# EAGLE library part QFP160PIN＿AITENDO (library QFP160PIN_AITENDO)
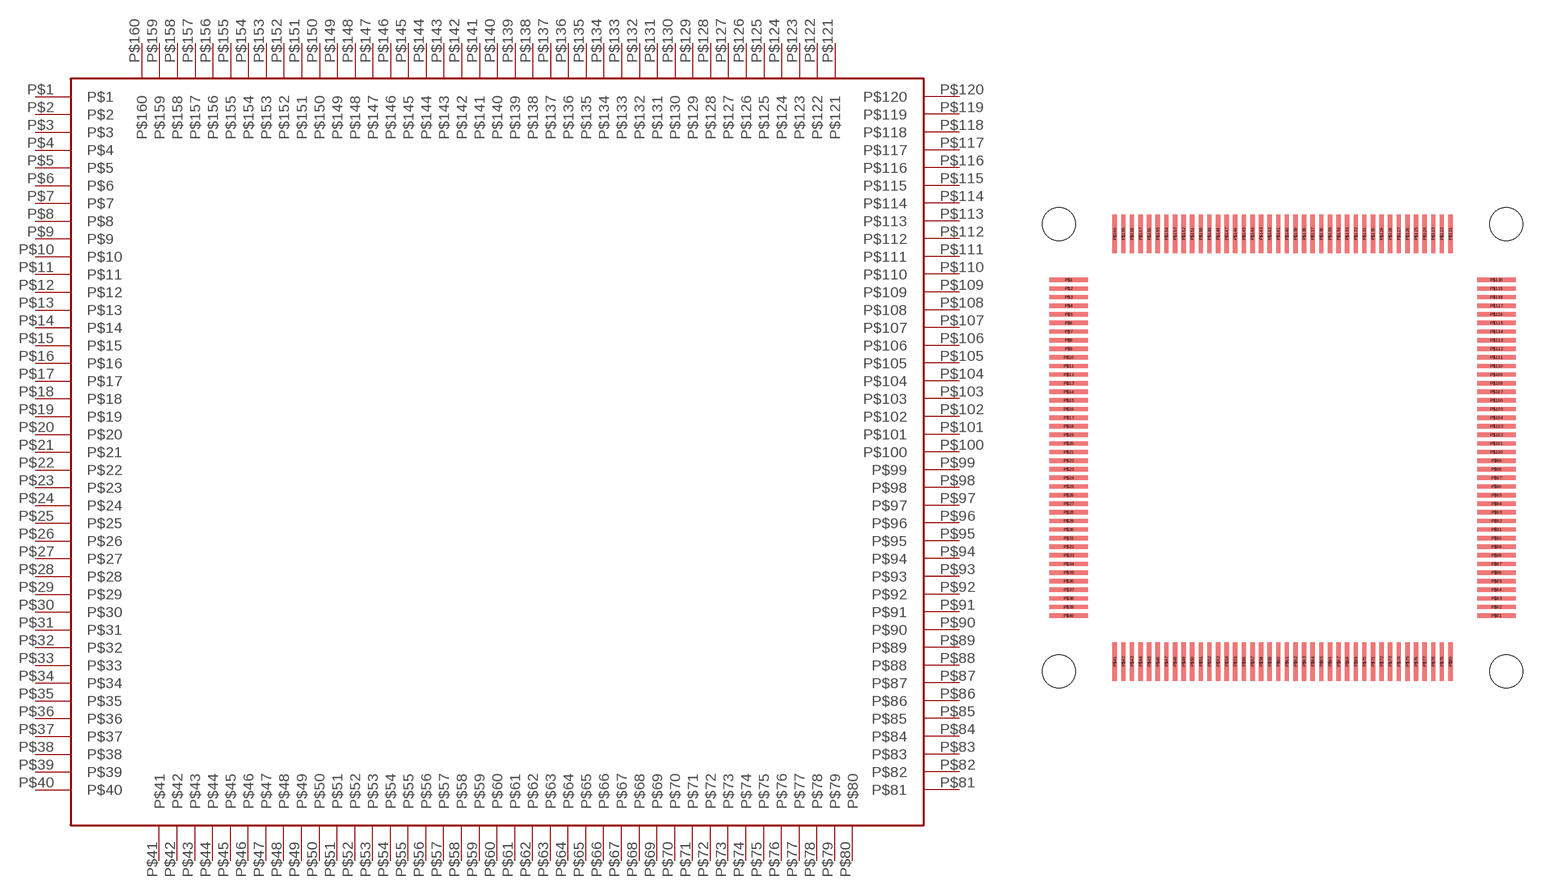
[diagram p0: symbol with the pads of QFP160PIN＿AITENDO; footprint QFP160PIN＿AITENDO]

Designator prefix -

## QFP160PIN＿AITENDO  [QFP160PIN＿AITENDO]
P$1  P$1
P$2  P$2
P$3  P$3
P$4  P$4
P$5  P$5
P$6  P$6
P$7  P$7
P$8  P$8
P$9  P$9
P$10  P$10
P$11  P$11
P$12  P$12
P$13  P$13
P$14  P$14
P$15  P$15
P$16  P$16
P$17  P$17
P$18  P$18
P$19  P$19
P$20  P$20
P$21  P$21
P$22  P$22
P$23  P$23
P$24  P$24
P$25  P$25
P$26  P$26
P$27  P$27
P$28  P$28
P$29  P$29
P$30  P$30
P$31  P$31
P$32  P$32
P$33  P$33
P$34  P$34
P$35  P$35
P$36  P$36
P$37  P$37
P$38  P$38
P$39  P$39
P$40  P$40
P$41  P$41
P$42  P$42
P$43  P$43
P$44  P$44
P$45  P$45
P$46  P$46
P$47  P$47
P$48  P$48
P$49  P$49
P$50  P$50
P$51  P$51
P$52  P$52
P$53  P$53
P$54  P$54
P$55  P$55
P$56  P$56
P$57  P$57
P$58  P$58
P$59  P$59
P$60  P$60
P$61  P$61
P$62  P$62
P$63  P$63
P$64  P$64
P$65  P$65
P$66  P$66
P$67  P$67
P$68  P$68
P$69  P$69
P$70  P$70
P$71  P$71
P$72  P$72
P$73  P$73
P$74  P$74
P$75  P$75
P$76  P$76
P$77  P$77
P$78  P$78
P$79  P$79
P$80  P$80
P$81  P$81
P$82  P$82
P$83  P$83
P$84  P$84
P$85  P$85
P$86  P$86
P$87  P$87
P$88  P$88
P$89  P$89
P$90  P$90
P$91  P$91
P$92  P$92
P$93  P$93
P$94  P$94
P$95  P$95
P$96  P$96
P$97  P$97
P$98  P$98
P$99  P$99
P$100  P$100
P$101  P$101
P$102  P$102
P$103  P$103
P$104  P$104
P$105  P$105
P$106  P$106
P$107  P$107
P$108  P$108
P$109  P$109
P$110  P$110
P$111  P$111
P$112  P$112
P$113  P$113
P$114  P$114
P$115  P$115
P$116  P$116
P$117  P$117
P$118  P$118
P$119  P$119
P$120  P$120
P$121  P$121
P$122  P$122
P$123  P$123
P$124  P$124
P$125  P$125
P$126  P$126
P$127  P$127
P$128  P$128
P$129  P$129
P$130  P$130
P$131  P$131
P$132  P$132
P$133  P$133
P$134  P$134
P$135  P$135
P$136  P$136
P$137  P$137
P$138  P$138
P$139  P$139
P$140  P$140
P$141  P$141
P$142  P$142
P$143  P$143
P$144  P$144
P$145  P$145
P$146  P$146
P$147  P$147
P$148  P$148
P$149  P$149
P$150  P$150
P$151  P$151
P$152  P$152
P$153  P$153
P$154  P$154
P$155  P$155
P$156  P$156
P$157  P$157
P$158  P$158
P$159  P$159
P$160  P$160

## Footprint QFP160PIN＿AITENDO (pad centres in mm)
smd 2.9 x 0.33: P$1 -16.15,12.675; P$2 -16.15,12.025; P$3 -16.15,11.375; P$4 -16.15,10.725; P$5 -16.15,10.075; P$6 -16.15,9.425; P$7 -16.15,8.775; P$8 -16.15,8.125; P$9 -16.15,7.475; P$10 -16.15,6.825; P$11 -16.15,6.175; P$12 -16.15,5.525; P$13 -16.15,4.875; P$14 -16.15,4.225; P$15 -16.15,3.575; P$16 -16.15,2.925; P$17 -16.15,2.275; P$18 -16.15,1.625; P$19 -16.15,0.975; P$20 -16.15,0.325; P$21 -16.15,-0.325; P$22 -16.15,-0.975; P$23 -16.15,-1.625; P$24 -16.15,-2.275; P$25 -16.15,-2.925; P$26 -16.15,-3.575; P$27 -16.15,-4.225; P$28 -16.15,-4.875; P$29 -16.15,-5.525; P$30 -16.15,-6.175; P$31 -16.15,-6.825; P$32 -16.15,-7.475; P$33 -16.15,-8.125; P$34 -16.15,-8.775; P$35 -16.15,-9.425; P$36 -16.15,-10.075; P$37 -16.15,-10.725; P$38 -16.15,-11.375; P$39 -16.15,-12.025; P$40 -16.15,-12.675; P$81 16.15,-12.675; P$82 16.15,-12.025; P$83 16.15,-11.375; P$84 16.15,-10.725; P$85 16.15,-10.075; P$86 16.15,-9.425; P$87 16.15,-8.775; P$88 16.15,-8.125; P$89 16.15,-7.475; P$90 16.15,-6.825; P$91 16.15,-6.175; P$92 16.15,-5.525; P$93 16.15,-4.875; P$94 16.15,-4.225; P$95 16.15,-3.575; P$96 16.15,-2.925; P$97 16.15,-2.275; P$98 16.15,-1.625; P$99 16.15,-0.975; P$100 16.15,-0.325; P$101 16.15,0.325; P$102 16.15,0.975; P$103 16.15,1.625; P$104 16.15,2.275; P$105 16.15,2.925; P$106 16.15,3.575; P$107 16.15,4.225; P$108 16.15,4.875; P$109 16.15,5.525; P$110 16.15,6.175; P$111 16.15,6.825; P$112 16.15,7.475; P$113 16.15,8.125; P$114 16.15,8.775; P$115 16.15,9.425; P$116 16.15,10.075; P$117 16.15,10.725; P$118 16.15,11.375; P$119 16.15,12.025; P$120 16.15,12.675
smd 0.33 x 2.9: P$41 -12.675,-16.15; P$42 -12.025,-16.15; P$43 -11.375,-16.15; P$44 -10.725,-16.15; P$45 -10.075,-16.15; P$46 -9.425,-16.15; P$47 -8.775,-16.15; P$48 -8.125,-16.15; P$49 -7.475,-16.15; P$50 -6.825,-16.15; P$51 -6.175,-16.15; P$52 -5.525,-16.15; P$53 -4.875,-16.15; P$54 -4.225,-16.15; P$55 -3.575,-16.15; P$56 -2.925,-16.15; P$57 -2.275,-16.15; P$58 -1.625,-16.15; P$59 -0.975,-16.15; P$60 -0.325,-16.15; P$61 0.325,-16.15; P$62 0.975,-16.15; P$63 1.625,-16.15; P$64 2.275,-16.15; P$65 2.925,-16.15; P$66 3.575,-16.15; P$67 4.225,-16.15; P$68 4.875,-16.15; P$69 5.525,-16.15; P$70 6.175,-16.15; P$71 6.825,-16.15; P$72 7.475,-16.15; P$73 8.125,-16.15; P$74 8.775,-16.15; P$75 9.425,-16.15; P$76 10.075,-16.15; P$77 10.725,-16.15; P$78 11.375,-16.15; P$79 12.025,-16.15; P$80 12.675,-16.15; P$121 12.675,16.15; P$122 12.025,16.15; P$123 11.375,16.15; P$124 10.725,16.15; P$125 10.075,16.15; P$126 9.425,16.15; P$127 8.775,16.15; P$128 8.125,16.15; P$129 7.475,16.15; P$130 6.825,16.15; P$131 6.175,16.15; P$132 5.525,16.15; P$133 4.875,16.15; P$134 4.225,16.15; P$135 3.575,16.15; P$136 2.925,16.15; P$137 2.275,16.15; P$138 1.625,16.15; P$139 0.975,16.15; P$140 0.325,16.15; P$141 -0.325,16.15; P$142 -0.975,16.15; P$143 -1.625,16.15; P$144 -2.275,16.15; P$145 -2.925,16.15; P$146 -3.575,16.15; P$147 -4.225,16.15; P$148 -4.875,16.15; P$149 -5.525,16.15; P$150 -6.175,16.15; P$151 -6.825,16.15; P$152 -7.475,16.15; P$153 -8.125,16.15; P$154 -8.775,16.15; P$155 -9.425,16.15; P$156 -10.075,16.15; P$157 -10.725,16.15; P$158 -11.375,16.15; P$159 -12.025,16.15; P$160 -12.675,16.15
hole 2.5 at 16.875,16.875
hole 2.5 at -16.875,16.875
hole 2.5 at -16.875,-16.875
hole 2.5 at 16.875,-16.875